# Altium footprint library CON HLE-104-02-x-DV-BE-A.PcbLib: 1 footprints
Each footprint in its own frame and in the unit in brackets; x right, y up, seen from the top. Pads: shape width x height; smd on the part's side, far side on the other; paste and mask are expansions set on the pad; w line width, h text height; cw(c..) or ccw(c..) is an arc to the next point about the centre after c.
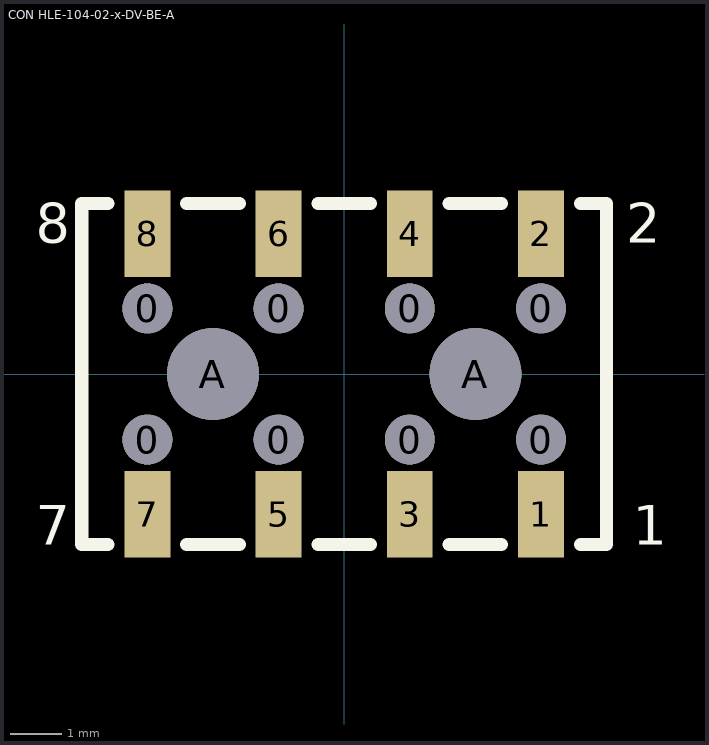
[diagram p0: the footprint, top view; thin cyan lines are the x and y axes]

## CON HLE-104-02-x-DV-BE-A [mil]
pads (18):
  round 38 hole 38 unplated: 0(-150,-50) 0(-150,50) 0(-50,-50) 0(-50,50) 0(50,-50) 0(50,50) 0(150,-50) 0(150,50)
  rect 35x66 smd: 1(150,-107) 2(150,107) 3(50,-107) 4(50,107) 5(-50,-107) 6(-50,107) 7(-150,-107) 8(-150,107)
  round 70 hole 70 unplated: A(-100,0) A(100,0)
Top Overlay:
  lines w10: -180,-130 -200,-130 -200,130 -180,130 ; -120,-130 -80,-130 ; -120,130 -80,130 ; -20,-130 20,-130 ; -20,130 20,130 ; 80,-130 120,-130 ; 80,130 120,130 ; 180,-130 200,-130 200,130 180,130
  text "2" at 215,100 h30
  text "1" at 220,-130 h30
  text "8" at -235,100 h30
  text "7" at -235,-130 h30
3D body: height 144.6, standoff -43.4, extent -200,-130 200,130